# EAGLE library part CONN_APOGEE_LOGGER (library GEMS_Plugs)
GEMS Connector for Apogee Devices
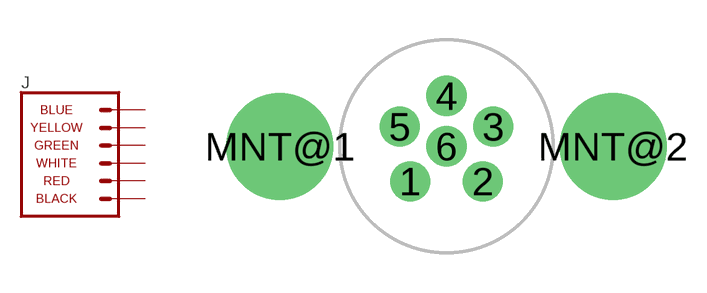
[diagram p1: symbol with the pads of 1X06_M8_PHOENIX_1456022_BOARDLOCK; footprint 1X06_M8_PHOENIX_1456022_BOARDLOCK]

Designator prefix J

## CONN_APOGEE_LOGGER (DIGIKEY: 277-17111-ND; DISP: Logger; MF: Phoenix Contact; MPN: 1456022)  [1X06_M8_PHOENIX_1456022_BOARDLOCK]
1  1  pas
2  2  pas
3  3  pas
4  4  pas
5  5  pas
6  6  pas

## Footprint 1X06_M8_PHOENIX_1456022_BOARDLOCK (pad centres in mm)
M8, 6 pos, A Coded connector with boardlock Manufacturer: Phoenix Contact Manufacturer Part Number: 1456022 Digikey Part Number: 277-17111-ND Datasheet <https://media.digikey.com/pdf/Data%20Sheets/Phoenix%20Contact%20PDFs/1456022.pdf>
drill 1: 1 -1.365,-1.32; 2 1.365,-1.32; 3 1.75,0.74; 4 0,1.9; 5 -1.75,0.74; 6 0,0
drill 3: MNT@1 -6.25,0; MNT@2 6.25,0